# Altium footprint library battery.PCBLIB: 43 footprints (part 3 of 3)
Each footprint in its own frame and in the unit in brackets; x right, y up, seen from the top. Pads: shape width x height; smd on the part's side, far side on the other; paste and mask are expansions set on the pad; w line width, h text height; cw(c..) or ccw(c..) is an arc to the next point about the centre after c.
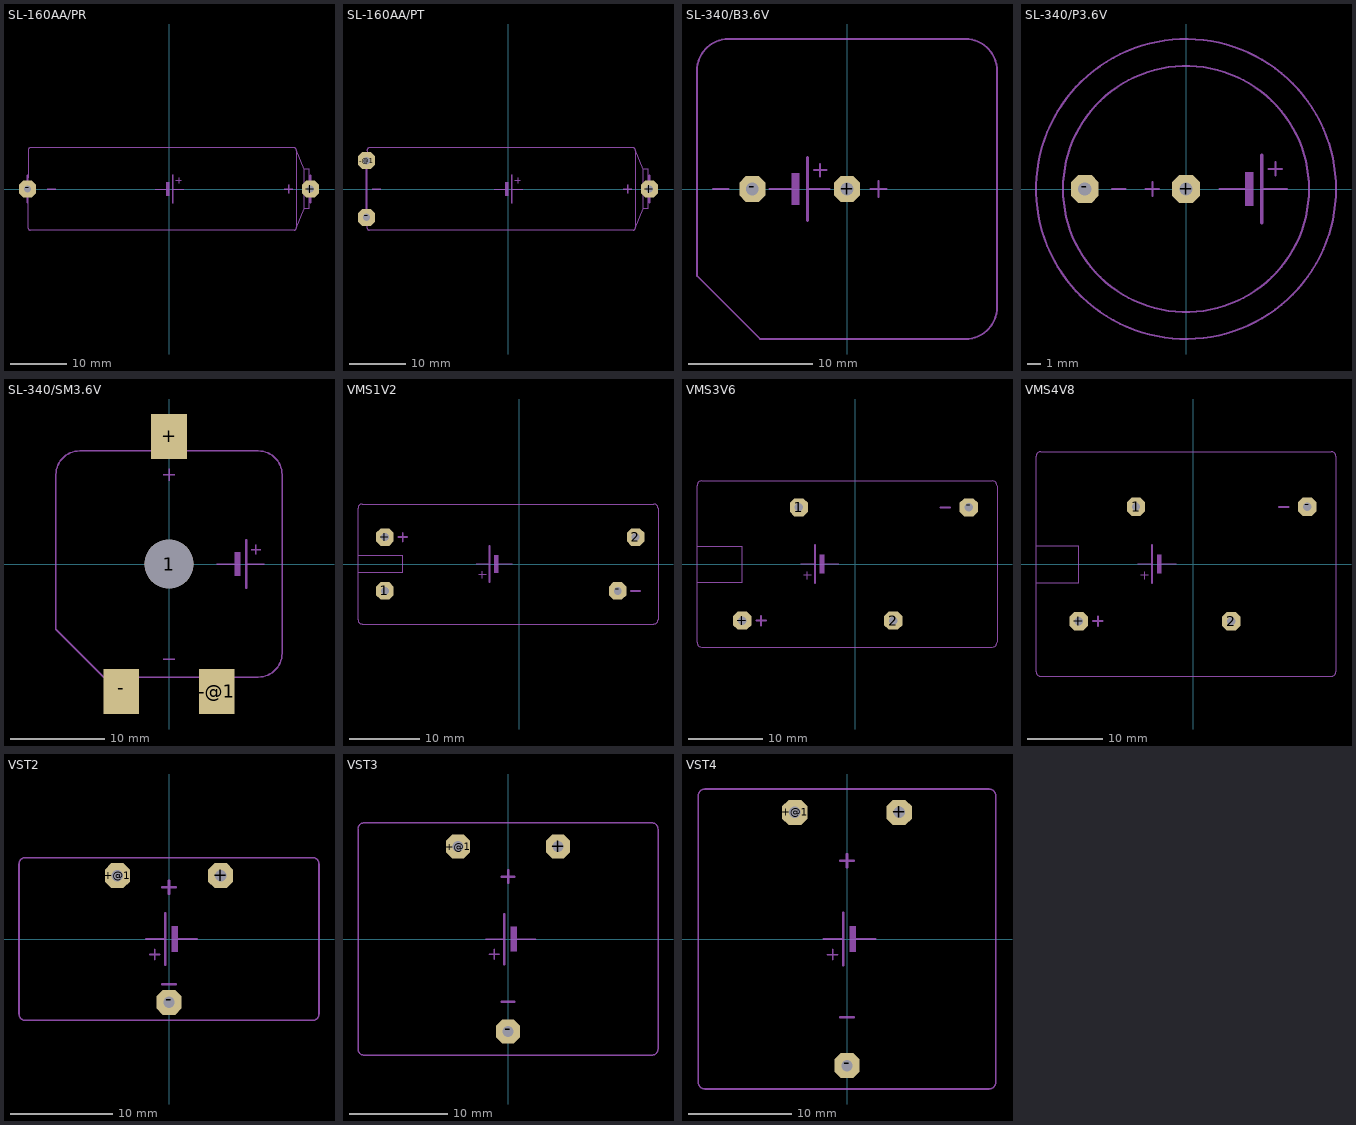
[diagram p2: the footprints below, top view; thin cyan lines are the x and y axes]

## SL-160AA/PR [mil]
pads (2):
  oct 120.06x120.06 hole 52: +(995,0) -(-1000,0)
Mechanical 2:
  rectangle: -25,-50 0,50
  lines w6: -995,-80 -995,-275 ccw(c-980,-275) -980,-290 880,-290 ccw(c880,-275) 895,-275 ; -995,80 -995,275 cw(c-980,275) -980,290 880,290 cw(c880,275) 895,275 ; -100,0 -25,0 ; 25,0 100,0 ; 45,60 85,60 ; 65,40 65,80 ; 950,-60 950,-140 ; 950,55 950,140 ; 985,-75 985,-140 950,-140 ; 985,75 985,140 950,140 ; 895,-275 950,-140 ; 895,-275 895,275 ; 895,275 950,140
  lines w10: -860,0 -800,0 ; 25,-100 25,0 25,100 ; 810,0 870,0 ; 840,-30 840,30
Mechanical 18:
  lines w6: 950,-60 950,55 ; 985,-75 985,75
  lines w16: -1000,-95 -1000,95 ; 995,-95 995,95

## SL-160AA/PT [mil]
pads (3):
  oct 120.06x120.06 hole 52: +(995,0) -(-1000,-200) -@1(-1000,200)
Mechanical 2:
  rectangle: -25,-50 0,50
  lines w6: -995,-270 -995,-275 ccw(c-980,-275) -980,-290 880,-290 ccw(c880,-275) 895,-275 ; -995,270 -995,275 cw(c-980,275) -980,290 880,290 cw(c880,275) 895,275 ; -100,0 -25,0 ; 25,0 100,0 ; 45,60 85,60 ; 65,40 65,80 ; 950,-60 950,-140 ; 950,55 950,140 ; 985,-75 985,-140 950,-140 ; 985,75 985,140 950,140 ; 895,-275 950,-140 ; 895,-275 895,275 ; 895,275 950,140
  lines w10: -960,0 -900,0 ; 25,-100 25,0 25,100 ; 810,0 870,0 ; 840,-30 840,30
  lines w16: -1000,-120 -1000,120
Mechanical 18:
  lines w6: -995,-270 -995,-215 ; -995,215 -995,270 ; 950,-60 950,55 ; 985,-75 985,75
  lines w16: -1000,-215 -1000,-120 ; -1000,120 -1000,215 ; 995,-95 995,95

## SL-340/B3.6V [mil]
pads (2):
  oct 82.3x82.3 hole 40: +(0,0) -(-300,0)
Mechanical 2:
  rectangle: -175,-50 -150,50
  lines w6: -425,0 -375,0 ; -245,0 -175,0 ; -125,0 -55,0 ; -105,60 -65,60 ; -85,40 -85,80 ; 75,0 125,0 ; 100,-25 100,25 ; -475,-275 -475,375 cw(c-375,375) -375,475 375,475 cw(c375,375) 475,375 475,-375 cw(c375,-375) 375,-475 -275,-475 -475,-275
  lines w10: -125,-100 -125,0 -125,100

## SL-340/P3.6V [mil]
pads (2):
  oct 82.3x82.3 hole 40: +(0,0) -(-300,0)
Mechanical 2:
  circle w6: c0,0 r445
  circle w6: c0,0 r365
  rectangle: 175,-50 200,50
  lines w6: -220,0 -180,0 ; -120,0 -80,0 ; -100,-20 -100,20 ; 100,0 175,0 ; 225,0 300,0 ; 245,60 285,60 ; 265,40 265,80
  lines w10: 225,-100 225,0 225,100

## SL-340/SM3.6V [mil]
pads (4):
  round 204.72 hole 204.72: 1(0,0)
  rect 150x190 smd: +(0,535) -(-200,-535) -@1(200,-535)
Mechanical 2:
  rectangle: 275,-50 300,50
  lines w6: -285,-465 -475,-275 -475,375 cw(c-375,375) -375,475 -90,475 ; -110,-475 110,-475 ; -25,-400 25,-400 ; -25,375 25,375 ; 0,350 0,400 ; 90,475 375,475 cw(c375,375) 475,375 475,-375 cw(c375,-375) 375,-475 290,-475 ; 200,0 275,0 ; 325,0 400,0 ; 345,60 385,60 ; 365,40 365,80
  lines w10: 325,-100 325,0 325,100
Mechanical 18:
  lines w6: -285,-465 -275,-475 -240,-475 ; -110,-475 -160,-475 ; -90,475 -40,475 ; 90,475 40,475 ; 110,-475 160,-475 ; 290,-475 240,-475 ; -240,-475 -160,-475 ; -240,-475 -240,-590 -160,-590 -160,-475 ; -40,475 40,475 ; -40,475 -40,590 40,590 40,475 ; 160,-475 240,-475 ; 160,-475 160,-590 240,-590 240,-475

## VMS1V2 [mil]
pads (4):
  oct 96.82x96.82 hole 44: 1(-750,-150) 2(650,150) +(-750,150) -(550,-150)
Mechanical 2:
  rectangle: -140,-50 -115,50
  lines w6: -240,0 -165,0 ; -225,-60 -185,-60 ; -205,-80 -205,-40 ; -115,0 -40,0 ; -900,-50 -900,-310 ccw(c-875,-310) -875,-335 750,-335 ccw(c750,-310) 775,-310 775,310 ccw(c750,310) 750,335 -875,335 ccw(c-875,310) -900,310 -900,50 ; -900,-50 -900,50 ; -900,-50 -650,-50 -650,50 -900,50
  lines w10: -675,150 -625,150 ; -650,125 -650,175 ; -165,-100 -165,0 -165,100 ; 625,-150 675,-150

## VMS3V6 [mil]
pads (4):
  oct 96.82x96.82 hole 44: 1(-300,300) 2(200,-300) +(-600,-300) -(600,300)
Mechanical 2:
  rectangle: -190,-50 -165,50
  lines w6: -290,0 -215,0 ; -275,-60 -235,-60 ; -255,-80 -255,-40 ; -165,0 -90,0 ; -840,-100 -840,-415 ccw(c-815,-415) -815,-440 725,-440 ccw(c725,-415) 750,-415 750,415 ccw(c725,415) 725,440 -815,440 ccw(c-815,415) -840,415 -840,95 ; -840,-100 -600,-100 -600,95 -840,95 ; -840,-100 -840,95
  lines w10: -525,-300 -475,-300 ; -500,-325 -500,-275 ; -215,-100 -215,0 -215,100 ; 450,300 500,300

## VMS4V8 [mil]
pads (4):
  oct 96.82x96.82 hole 44: 1(-300,300) 2(200,-300) +(-600,-300) -(600,300)
Mechanical 2:
  rectangle: -190,-50 -165,50
  lines w6: -290,0 -215,0 ; -275,-60 -235,-60 ; -255,-80 -255,-40 ; -165,0 -90,0 ; -825,-100 -825,-565 ccw(c-800,-565) -800,-590 725,-590 ccw(c725,-565) 750,-565 750,565 ccw(c725,565) 725,590 -800,590 ccw(c-800,565) -825,565 -825,95 ; -825,-100 -600,-100 -600,95 -825,95 ; -825,-100 -825,95
  lines w10: -525,-300 -475,-300 ; -500,-325 -500,-275 ; -215,-100 -215,0 -215,100 ; 450,300 500,300

## VST2 [mil]
pads (3):
  oct 96.82x96.82 hole 44: +(200,245) +@1(-200,245) -(0,-245)
Mechanical 2:
  rectangle: 10,-50 35,50
  lines w6: -90,0 -15,0 ; -75,-60 -35,-60 ; -55,-80 -55,-40 ; 35,0 110,0 ; -580,-290 ccw(c-555,-290) -555,-315 555,-315 ccw(c555,-290) 580,-290 580,290 ccw(c555,290) 555,315 -555,315 ccw(c-555,290) -580,290 -580,-290
  lines w10: -25,-175 25,-175 ; -25,200 25,200 ; -15,-100 -15,0 -15,100 ; 0,175 0,225

## VST3 [mil]
pads (3):
  oct 96.82x96.82 hole 44: +(200,370) +@1(-200,370) -(0,-370)
Mechanical 2:
  rectangle: 10,-50 35,50
  lines w6: -90,0 -15,0 ; -75,-60 -35,-60 ; -55,-80 -55,-40 ; 35,0 110,0 ; -600,-440 ccw(c-575,-440) -575,-465 575,-465 ccw(c575,-440) 600,-440 600,440 ccw(c575,440) 575,465 -575,465 ccw(c-575,440) -600,440 -600,-440
  lines w10: -25,-250 25,-250 ; -25,250 25,250 ; -15,-100 -15,0 -15,100 ; 0,225 0,275

## VST4 [mil]
pads (3):
  oct 96.82x96.82 hole 44: +(200,485) +@1(-200,485) -(0,-485)
Mechanical 2:
  rectangle: 10,-50 35,50
  lines w6: -90,0 -15,0 ; -75,-60 -35,-60 ; -55,-80 -55,-40 ; 35,0 110,0 ; -570,-550 ccw(c-545,-550) -545,-575 545,-575 ccw(c545,-550) 570,-550 570,550 ccw(c545,550) 545,575 -545,575 ccw(c-545,550) -570,550 -570,-550
  lines w10: -25,-300 25,-300 ; -25,300 25,300 ; -15,-100 -15,0 -15,100 ; 0,275 0,325